# Altium footprint library Virtex.PcbLib: 51 footprints (part 4 of 4)
Each footprint in its own frame and in the unit in brackets; x right, y up, seen from the top. Pads: shape width x height; smd on the part's side, far side on the other; paste and mask are expansions set on the pad; w line width, h text height; cw(c..) or ccw(c..) is an arc to the next point about the centre after c.
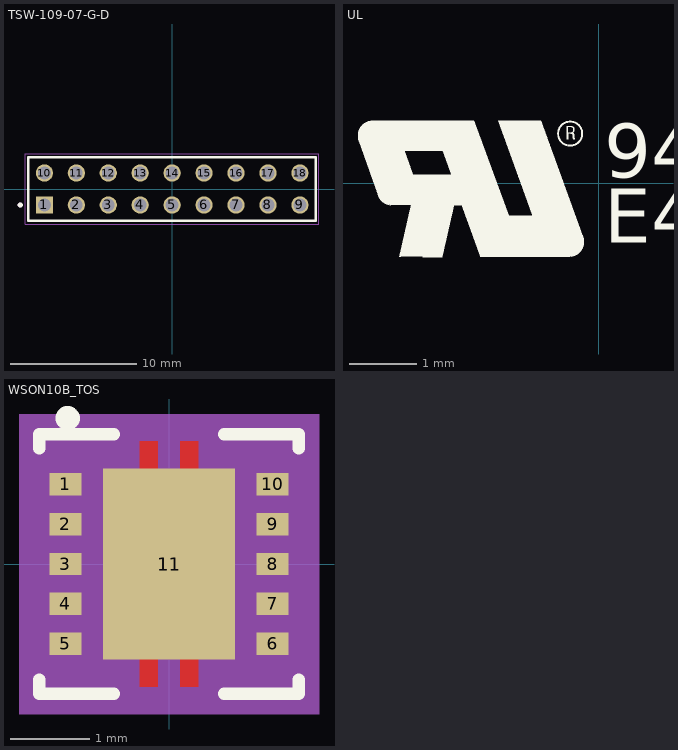
[diagram p3: the footprints below, top view; thin cyan lines are the x and y axes]

## TSW-109-07-G-D [mm]
pads (18):
  rect 1.37x1.37 hole 1.02: 1(-10.16,-1.27)
  round 1.37 hole 1.02: 2(-7.62,-1.27) 3(-5.08,-1.27) 4(-2.54,-1.27) 5(0,-1.27) 6(2.54,-1.27) 7(5.08,-1.27) 8(7.62,-1.27) 9(10.16,-1.27) 10(-10.16,1.27) 11(-7.62,1.27) 12(-5.08,1.27) 13(-2.54,1.27) 14(0,1.27) 15(2.54,1.27) 16(5.08,1.27) 17(7.62,1.27) 18(10.16,1.27)
Top Overlay:
  circle w0.2: c-12.08,-1.27 r0.1
  lines w0.2: -11.43,-2.54 11.43,-2.54 11.43,2.54 -11.43,2.54 -11.43,-2.54
Mechanical 13:
  circle w0.2: c-12.08,-1.27 r0.1
  lines w0.1: -11.43,-2.54 -11.43,2.54 ; -11.43,-2.54 11.43,-2.54 ; -11.43,-2.54 -11.43,2.54 ; -11.43,2.54 11.43,2.54 ; -11.43,2.54 11.43,2.54 ; 11.43,-2.54 11.43,2.54 ; 11.43,-2.54 11.43,2.54
Mechanical 15:
  lines w0.05: -11.68,-2.79 11.68,-2.79 11.68,2.79 -11.68,2.79 -11.68,-2.79
3D body "TSW-109-07-G-D.stp": height 8.38, standoff -2.54, extent -11.43,-2.54 11.43,2.54

## UL [mm]
Top Overlay:
  drawing of 3 lines, arcs and shapes, not listed
  text "94V-0" at 0.08,0.08 h0.8
  text "E488074" at 0.08,-0.88 h0.8

## WSON10B_TOS [mm]
pads (11):
  rect 0.4x0.279 smd paste+0 mask+0: 1(-1.3,1) 2(-1.3,0.5) 3(-1.3,0) 4(-1.3,-0.5) 5(-1.3,-1) 6(1.3,-1) 7(1.3,-0.5) 8(1.3,0) 9(1.3,0.5) 10(1.3,1)
  rect 1.65x2.4 smd paste+0 mask+0: 11(0,0)
Top Layer:
  region: 0.14,-1.194 0.368,-1.194 0.368,-1.537 0.14,-1.537
  region: -0.14,-1.194 -0.368,-1.194 -0.368,-1.537 -0.14,-1.537
  region: 0.14,1.194 0.368,1.194 0.368,1.537 0.14,1.537
  region: -0.14,1.194 -0.368,1.194 -0.368,1.537 -0.14,1.537
Top Overlay:
  circle w0.254: c-1.27,1.829 r0.025
  lines w0.152: -1.627,-1.447 -1.627,-1.627 -0.689,-1.627 ; -1.627,1.447 -1.627,1.627 -0.689,1.627 ; 0.689,-1.627 1.627,-1.627 1.627,-1.447 ; 0.689,1.627 1.627,1.627 1.627,1.447
Top Paste:
  region: 0.14,-1.194 0.368,-1.194 0.368,-1.537 0.14,-1.537
  region: -0.14,-1.194 -0.368,-1.194 -0.368,-1.537 -0.14,-1.537
  region: 0.14,1.194 0.368,1.194 0.368,1.537 0.14,1.537
  region: -0.14,1.194 -0.368,1.194 -0.368,1.537 -0.14,1.537
Top Solder:
  region: 0.14,-1.194 0.368,-1.194 0.368,-1.537 0.14,-1.537
  region: -0.14,-1.194 -0.368,-1.194 -0.368,-1.537 -0.14,-1.537
  region: 0.14,1.194 0.368,1.194 0.368,1.537 0.14,1.537
  region: -0.14,1.194 -0.368,1.194 -0.368,1.537 -0.14,1.537
Bottom Courtyard:
  region: 1.881,-1.881 -1.881,-1.881 -1.881,1.881 1.881,1.881
Mechanical 13:
  lines w0: -0.305,1.5 ccw(c0,1.5) 0.305,1.5
  lines w0.025: -1.5,-1.5 -1.5,1.5 1.5,1.5 1.5,-1.5 -1.5,-1.5
Mechanical 15:
  region: -1.754,-1.301 -1.754,1.301 -1.754,1.754 1.754,1.754 1.754,1.301 1.754,-1.301 1.754,-1.754 -1.754,-1.754
  lines w0.152: -1.754,-1.754 1.754,-1.754 1.754,-1.301 1.754,1.301 1.754,1.754 -1.754,1.754 -1.754,1.301 -1.754,-1.301 -1.754,-1.754
3D body "WSON10B_TOS.step": height 0.71, standoff 0, extent -1.5,-1.537 1.5,1.537